# EAGLE library part MC68HC908GP32*FB (library micro-motorola-rp)
MC68HC908GP32 MC68HC08GP32 Source: www.motorola.com .. MC68HC908GP32.pdf
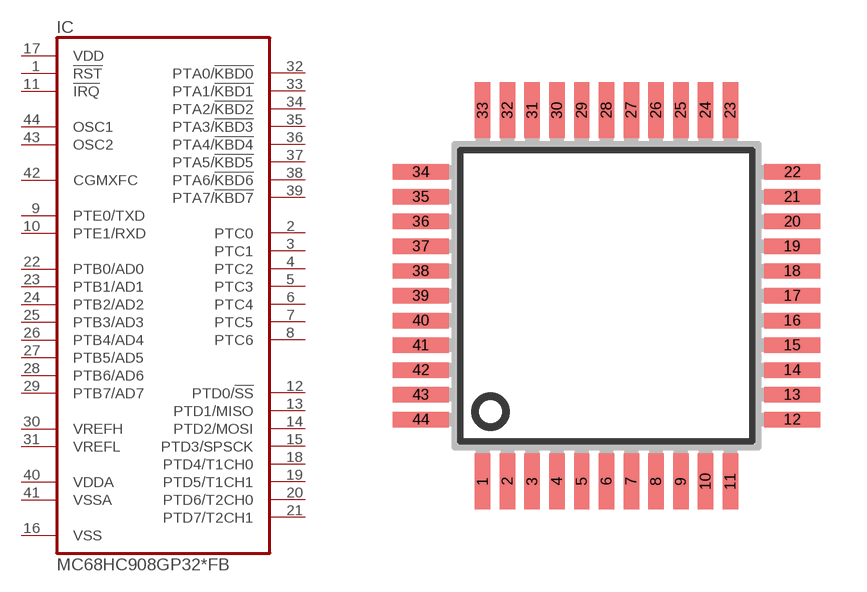
[diagram p71: symbol with the pads of SQFP-S-10X10-44; footprint SQFP-S-10X10-44]

Designator prefix IC

## MC68HC908GP32CFB (MF: MOTOROLA; MPN: MC68HC908GP32CFB; OC_FARNELL: unknown; OC_NEWARK: 02C6745), MC68HC908GP32MFB (OC_FARNELL: unknown; OC_NEWARK: unknown), MC68HC908GP32VFB (OC_FARNELL: unknown; OC_NEWARK: unknown)  [SQFP-S-10X10-44]
1  !RST  in
2  PTC0
3  PTC1
4  PTC2
5  PTC3
6  PTC4
7  PTC5
8  PTC6
9  PTE0/TXD
10  PTE1/RXD
11  !IRQ  in
12  PTD0/!SS
13  PTD1/MISO
14  PTD2/MOSI
15  PTD3/SPSCK
16  VSS  pwr
17  VDD  pwr
18  PTD4/T1CH0
19  PTD5/T1CH1
20  PTD6/T2CH0
21  PTD7/T2CH1
22  PTB0/AD0
23  PTB1/AD1
24  PTB2/AD2
25  PTB3/AD3
26  PTB4/AD4
27  PTB5/AD5
28  PTB6/AD6
29  PTB7/AD7
30  VREFH  in
31  VREFL  in
32  PTA0/!KBD0
33  PTA1/!KBD1
34  PTA2/!KBD2
35  PTA3/!KBD3
36  PTA4/!KBD4
37  PTA5/!KBD5
38  PTA6/!KBD6
39  PTA7/!KBD7
40  VDDA  pwr
41  VSSA  pwr
42  CGMXFC  in
43  OSC2  in
44  OSC1  in

## Footprint SQFP-S-10X10-44 (pad centres in mm)
QFP44 shrink quad flat pack, square
smd 0.5 x 1.8: 1 -4,-6; 2 -3.2,-6; 3 -2.4,-6; 4 -1.6,-6; 5 -0.8,-6; 6 0,-6; 7 0.8,-6; 8 1.6,-6; 9 2.4,-6; 10 3.2,-6; 11 4,-6; 23 4,6; 24 3.2,6; 25 2.4,6; 26 1.6,6; 27 0.8,6; 28 0,6; 29 -0.8,6; 30 -1.6,6; 31 -2.4,6; 32 -3.2,6; 33 -4,6
smd 1.8 x 0.5: 12 6,-4; 13 6,-3.2; 14 6,-2.4; 15 6,-1.6; 16 6,-0.8; 17 6,0; 18 6,0.8; 19 6,1.6; 20 6,2.4; 21 6,3.2; 22 6,4; 34 -6,4; 35 -6,3.2; 36 -6,2.4; 37 -6,1.6; 38 -6,0.8; 39 -6,0; 40 -6,-0.8; 41 -6,-1.6; 42 -6,-2.4; 43 -6,-3.2; 44 -6,-4